# EAGLE library part MAX13330 (library EurorackModularParts)
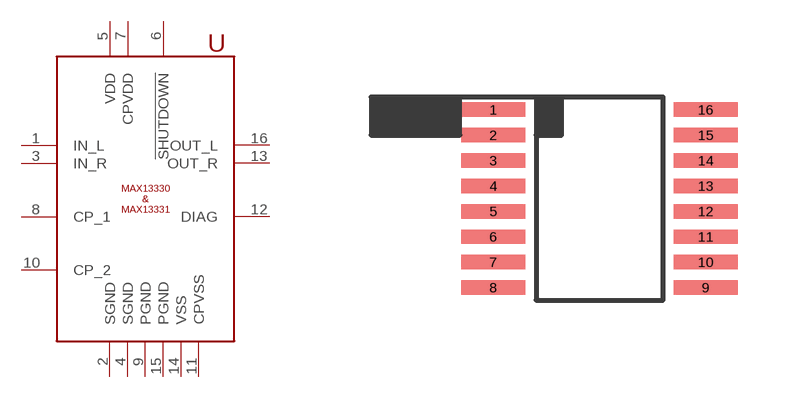
[diagram p17: symbol with the pads of QSOP16; footprint QSOP16]

Designator prefix -

## MAX13330  [QSOP16]
1  IN_L
2  SGND
3  IN_R
4  SGND
5  VDD
6  !SHUTDOWN
7  CPVDD
8  CP_1
9  PGND
10  CP_2
11  CPVSS
12  DIAG
13  OUT_R
14  VSS
15  PGND
16  OUT_L

## Footprint QSOP16 (pad centres in mm)
smd 1.6 x 0.36: 1 -2.655,2.223; 2 -2.655,1.587; 3 -2.655,0.953; 4 -2.655,0.318; 5 -2.655,-0.318; 6 -2.655,-0.953; 7 -2.655,-1.587; 8 -2.655,-2.223; 9 2.655,-2.223; 10 2.655,-1.587; 11 2.655,-0.953; 12 2.655,-0.318; 13 2.655,0.318; 14 2.655,0.953; 15 2.655,1.587; 16 2.655,2.223